# Altium schematic symbol library NHD-12232.SchLib: 1 symbol
Pins are listed as number, name and electrical type; pins without a type are passive.

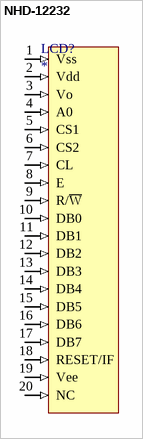
[diagram p0: symbol NHD-12232]

## NHD-12232
designator LCD?
MfrPartNo: *
pins: 1 Vss (in), 2 Vdd (in), 3 Vo (in), 4 A0 (in), 5 CS1 (in), 6 CS2 (in), 7 CL (in), 8 E (in), 9 R/~{W} (in), 10 DB0 (in), 11 DB1 (in), 12 DB2 (in), 13 DB3 (in), 14 DB4 (in), 15 DB5 (in), 16 DB6 (in), 17 DB7 (in), 18 RESET/IF (in), 19 Vee (in), 20 NC (in)